# EAGLE library part ARDUINO_USB_HOST_SHIELD (library ARDUINO_USB_HOST_SHIELD)
Arduino USB Host Shield Created by Aadesh Borate Features : Operating voltage : 5V USB Controller : MAX3421E Max Current : 500mA when Arduino is powered by a suitable power supply connected to the Arduino power jack Max Current : 400mA when Arduino is powered by its USB port Buy this module at Rhydolabz <https://www.rhydolabz.com/arduino-arduino-shields-c-152_151/arduino-usb-host-shield-original-arduino-p-1980.html> <
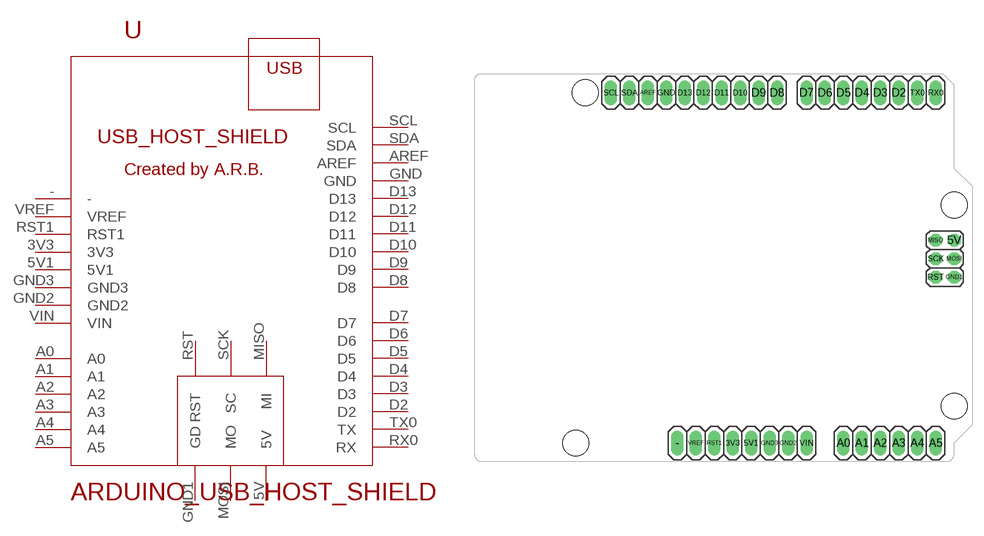
[diagram p0: symbol with the pads of ARDUINO_USB_HOST_SHIELD; footprint ARDUINO_USB_HOST_SHIELD]

Designator prefix -

## ARDUINO_USB_HOST_SHIELD  [ARDUINO_USB_HOST_SHIELD]
3V3  3V3
5V  5V
5V1  5V1
-  -
A0  A0
A1  A1
A2  A2
A3  A3
A4  A4
A5  A5
AREF  AREF
D2  D2
D3  D3
D4  D4
D5  D5
D6  D6
D7  D7
D8  D8
D9  D9
D10  D10
D11  D11
D12  D12
D13  D13
GND  GND
GND1  GD
GND2  GND2
GND3  GND3
MISO  MI
MOSI  MO
RST  RST
RST1  RST1
RX0  RX
SCK  SC
SCL  SCL
SDA  SDA
TX0  TX
VIN  VIN
VREF  VREF

## Footprint ARDUINO_USB_HOST_SHIELD (pad centres in mm)
Arduino USB Host Shield Created by Aadesh Borate Features : Operating voltage : 5V USB Controller : MAX3421E Max Current : 500mA when Arduino is powered by a suitable power supply connected to the Arduino power jack Max Current : 400mA when Arduino is powered by its USB port Buy this module at Rhydolabz <https://www.rhydolabz.com/arduino-arduino-shields-c-152_151/arduino-usb-host-shield-original-arduino-p-1980.html> <
drill 1.143 long: 3V3 1.27,-24.13; 5V1 3.81,-24.13; - -6.35,-24.13; A0 16.51,-24.13; A1 19.05,-24.13; A2 21.59,-24.13; A3 24.13,-24.13; A4 26.67,-24.13; A5 29.21,-24.13; AREF -10.414,24.13; D2 24.13,24.13; D3 21.59,24.13; D4 19.05,24.13; D5 16.51,24.13; D6 13.97,24.13; D7 11.43,24.13; D8 7.366,24.13; D9 4.826,24.13; D10 2.286,24.13; D11 -0.254,24.13; D12 -2.794,24.13; D13 -5.334,24.13; GND -7.874,24.13; GND2 8.89,-24.13; GND3 6.35,-24.13; RST1 -1.27,-24.13; RX0 29.21,24.13; SCL -15.494,24.13; SDA -12.954,24.13; TX0 26.67,24.13; VIN 11.43,-24.13; VREF -3.81,-24.13
drill 1.168 octagon: 5V 31.75,3.81; GND1 31.75,-1.27; MISO 29.21,3.81; MOSI 31.75,1.27; RST 29.21,-1.27; SCK 29.21,1.27
hole 3.56 at 31.75,-19.05
hole 3.56 at 31.75,8.636
hole 3.56 at -19.05,24.13
hole 3.56 at -20.32,-24.13